# Altium footprint library 0532610271.PcbLib: 1 footprints
Each footprint in its own frame and in the unit in brackets; x right, y up, seen from the top. Pads: shape width x height; smd on the part's side, far side on the other; paste and mask are expansions set on the pad; w line width, h text height; cw(c..) or ccw(c..) is an arc to the next point about the centre after c.
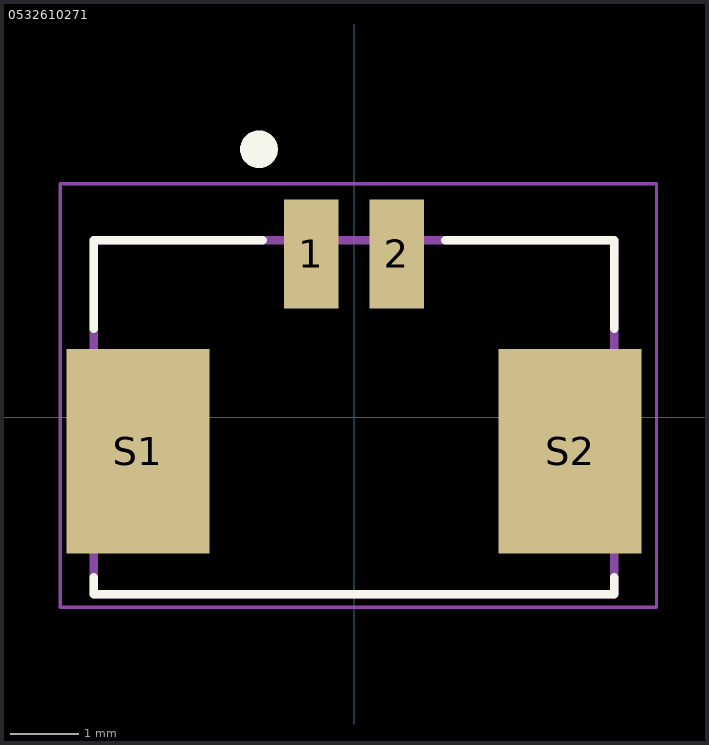
[diagram p0: the footprint, top view; thin cyan lines are the x and y axes]

## 0532610271 [mm]
pads (4):
  rect 0.8x1.6 smd mask+0.076: 1(-0.625,2.4) 2(0.625,2.4)
  rect 2.1x3 smd mask+0.076: S1(-3.175,-0.5) S2(3.175,-0.5)
Top Overlay:
  circle w0.3: c-1.397,3.937 r0.127
  lines w0.127: -3.825,-2.35 -3.825,-2.6 3.825,-2.6 3.825,-2.35 ; -3.825,1.3 -3.825,2.6 -1.345,2.6 ; 1.345,2.6 3.825,2.6 3.825,1.3
Top 3D Body:
  lines w0.127: -3.825,-2.6 -3.825,2.6 3.825,2.6 3.825,-2.6 -3.825,-2.6
Top Courtyard:
  lines w0.05: -4.318,-2.794 -4.318,3.429 4.445,3.429 4.445,-2.794 -4.318,-2.794
3D body "532610271.STEP": height 3.4, standoff 0, extent -3.825,-2.608 3.825,2.592